# Altium footprint library SC-75(SOT-523).PcbLib: 1 footprints
Each footprint in its own frame and in the unit in brackets; x right, y up, seen from the top. Pads: shape width x height; smd on the part's side, far side on the other; paste and mask are expansions set on the pad; w line width, h text height; cw(c..) or ccw(c..) is an arc to the next point about the centre after c.
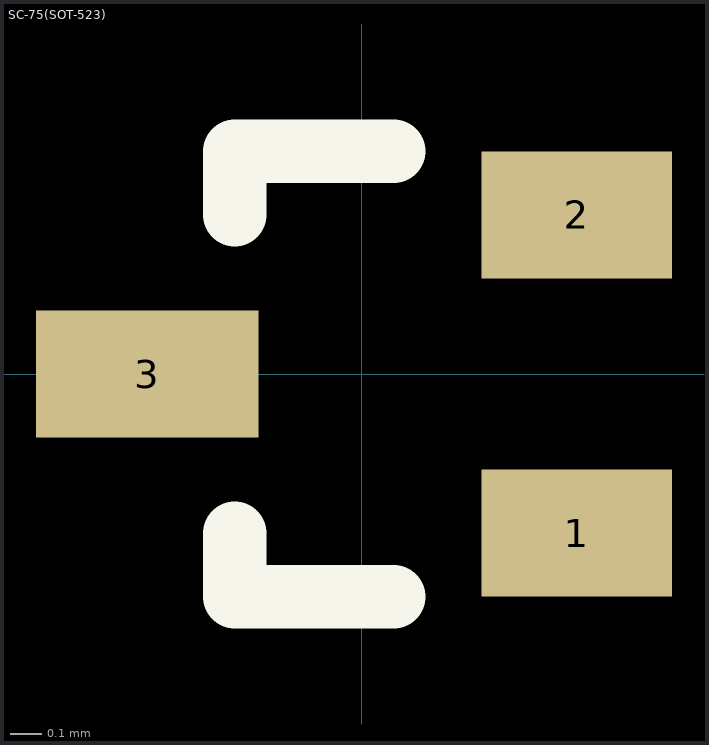
[diagram p0: the footprint, top view; thin cyan lines are the x and y axes]

## SC-75(SOT-523) [mm]
pads (3):
  rect 0.6x0.4 smd: 1(0.675,-0.5) 2(0.675,0.5)
  rect 0.7x0.4 smd: 3(-0.675,0)
Top Overlay:
  lines w0.2: -0.4,-0.5 -0.4,-0.7 0.1,-0.7 ; -0.4,0.5 -0.4,0.7 0.1,0.7
3D body: height 0.8, standoff 0, extent -0.825,-0.8 0.775,0.8